# EAGLE library part 20021521-00010T1LF (library fci)
MINITEK 127 SHROUDED HDR Source: http://portal.fciconnect.com/Comergent//fci/drawing/20021521.pdf
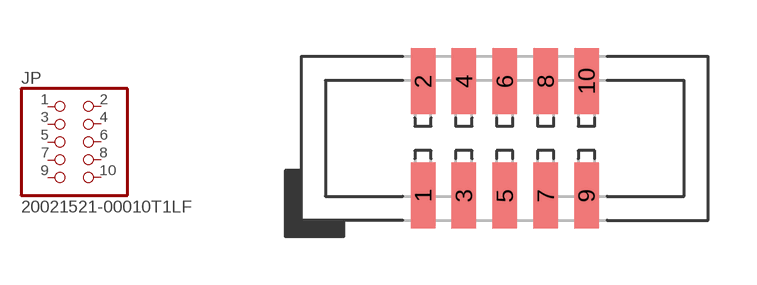
[diagram p3: symbol with the pads of 20021521-00010T1LF; footprint 20021521-00010T1LF]

Designator prefix JP

## 20021521-00010T1LF  [20021521-00010T1LF]
1  1  pas
2  2  pas
3  3  pas
4  4  pas
5  5  pas
6  6  pas
7  7  pas
8  8  pas
9  9  pas
10  10  pas

## Footprint 20021521-00010T1LF (pad centres in mm)
smd 0.76 x 2.05: 1 -2.54,-1.78; 2 -2.54,1.78; 3 -1.27,-1.78; 4 -1.27,1.78; 5 0,-1.78; 6 0,1.78; 7 1.27,-1.78; 8 1.27,1.78; 9 2.54,-1.78; 10 2.54,1.78